# Altium schematic symbol library Transistor.SchLib: 2 symbols
Pins are listed as number, name and electrical type; pins without a type are passive.

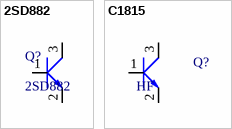
[diagram p0: symbols 2SD882 to C1815]

## 2SD882
designator Q?
NPN medium power transistor; ComponentLink1Description: Datasheet; ComponentLink1URL: https://www.st.com/content/ccc/resource/technical/document/datasheet/94/f8/66/07/d9/c8/40/55/CD00062867.pdf/files/CD00062867.pdf/jcr:content/translations/en.CD00062867.pdf
footprint TO-126
pins: 1 B, 2 E, 3 C

## C1815
designator Q?, comment HF
Transistor NPN, SOT-23.; Value: C9014
footprint SOT-23 (Footprint not found)
pins: 1 B, 2 E, 3 C